# Altium footprint library TO.PcbLib: 55 footprints (part 4 of 4)
Each footprint in its own frame and in the unit in brackets; x right, y up, seen from the top. Pads: shape width x height; smd on the part's side, far side on the other; paste and mask are expansions set on the pad; w line width, h text height; cw(c..) or ccw(c..) is an arc to the next point about the centre after c.
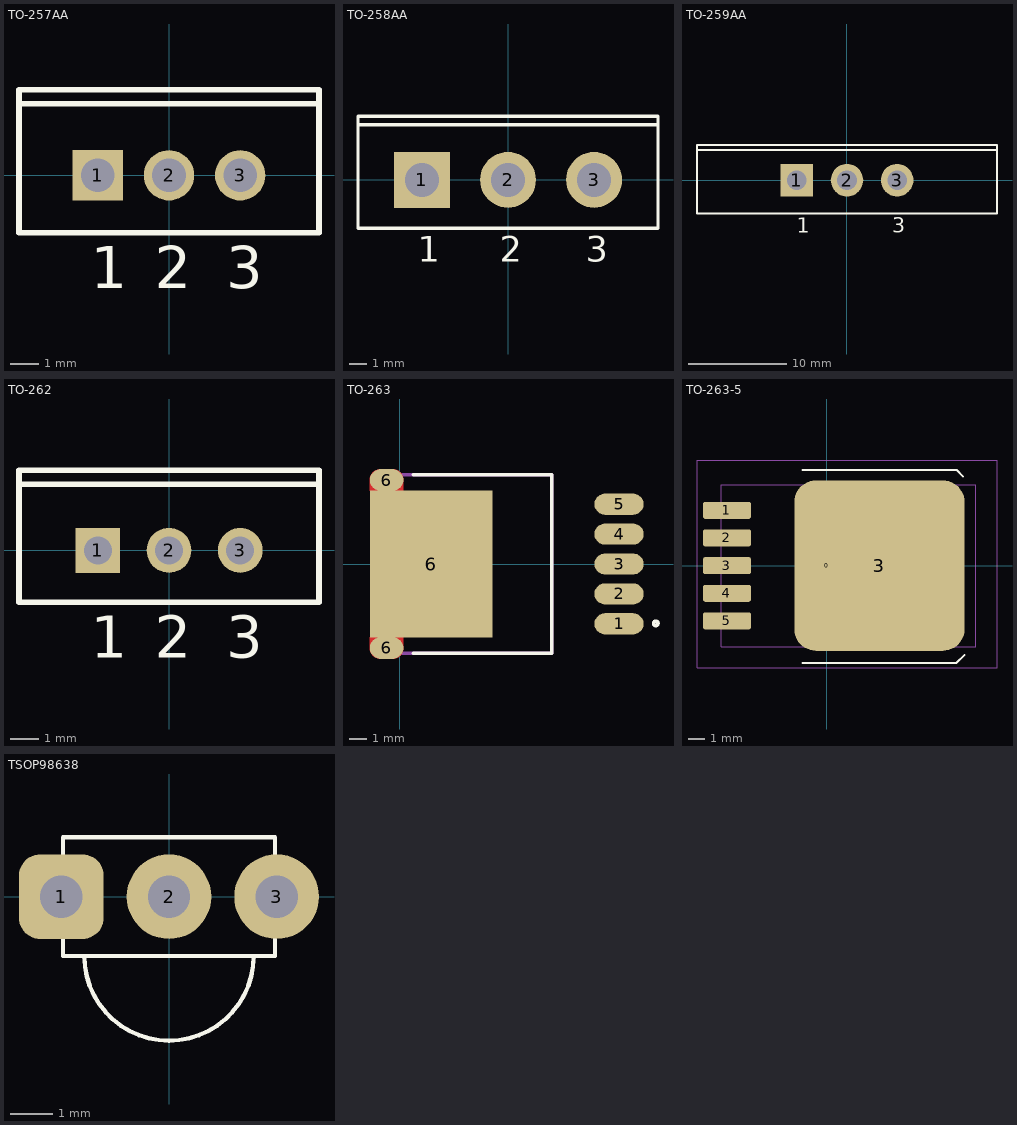
[diagram p3: the footprints below, top view; thin cyan lines are the x and y axes]

## TO-257AA [mm] "TO, Thru-Hole, Vertical, Heatsink Mounted; 3 In-Line Leads; Pitch 2.54 mm"
height 17.8
pads (3):
  rect 1.8x1.8 hole 1.2: 1(-2.54,0)
  round 1.8 hole 1.2: 2(0,0) 3(2.54,0)
Top Overlay:
  lines w0.2: -5.35,2.55 5.35,2.55 ; -5.35,-2.05 5.35,-2.05 5.35,3.05 -5.35,3.05 -5.35,-2.05
  text "3" at 2.04,-4.025 h1.5
  text "2" at -0.5,-4.025 h1.5
  text "1" at -2.79,-4.025 h1.5

## TO-258AA [mm] "TO, Thru-Hole, Vertical, Heatsink Mounted; 3 In-Line Leads; Pitch 5.08 mm"
height 21
pads (3):
  rect 3.3x3.3 hole 2: 1(-5.08,0)
  round 3.3 hole 2: 2(0,0) 3(5.08,0)
Top Overlay:
  lines w0.2: -8.85,3.25 8.85,3.25 ; -8.85,-2.85 -8.85,3.75 8.85,3.75 8.85,-2.85 -8.85,-2.85
  text "3" at 4.58,-4.825 h1.5
  text "2" at -0.5,-4.825 h1.5
  text "1" at -5.33,-4.825 h1.5

## TO-259AA [mm] "SIP; 3 Leads; Body 13.7 x 30.2 x 6.5 mm (typ); Pitch 5.08 mm"
height 14
pads (3):
  rect 3.3x3.3 hole 2: 1(-5.08,0)
  round 3.3 hole 2: 2(0,0) 3(5.08,0)
Top Overlay:
  lines w0.2: -15.2,3.05 15.2,3.05 ; -15.2,-3.35 -15.2,3.55 15.2,3.55 15.2,-3.35 -15.2,-3.35
  text "3" at 4.572,-5.33 h1.5
  text "1" at -5.08,-5.33 h1.5

## TO-262 [mm] "TO, Thru-Hole, Vertical, Heatsink Mounted; 3 In-Line Leads; Pitch 2.54 mm"
height 14.6
pads (3):
  rect 1.6x1.6 hole 1: 1(-2.54,0)
  round 1.6 hole 1: 2(0,0) 3(2.54,0)
Top Overlay:
  lines w0.2: -5.35,2.35 5.35,2.35 ; -5.35,-1.85 -5.35,2.85 5.35,2.85 5.35,-1.85 -5.35,-1.85
  text "3" at 2.04,-3.825 h1.5
  text "1" at -2.79,-3.825 h1.5
  text "2" at -0.5,-3.825 h1.5

## TO-263 [mm]
pads (8):
  oval 2.8x1.2 smd: 1(12.461,-3.4) 2(12.461,-1.7) 3(12.461,0) 4(12.461,1.7) 5(12.461,3.4)
  shape10 1.91x1.235 smd: 6(-0.754,-4.775) 6(-0.754,4.775)
  rect 6.99x8.33 smd: 6(1.786,0)
Top Layer:
  region: 0.201,4.775 0.201,4.816 0.19,4.896 0.169,4.974 0.138,5.049 0.098,5.119 0.049,5.183 -0.009,5.24 -0.073,5.289 -0.143,5.33 -0.218,5.361 -0.296,5.382 -0.376,5.392 -0.416,5.392 -1.091,5.393 -1.132,5.393 -1.212,5.382 -1.29,5.361 -1.365,5.33 -1.435,5.29 -1.5,5.24 -1.557,5.183 -1.606,5.119 -1.647,5.049 -1.677,4.974 -1.698,4.896 -1.709,4.816 -1.709,4.775 -1.709,4.158 -1.092,4.158 0.201,4.158
  region: -1.709,-4.775 -1.709,-4.816 -1.698,-4.896 -1.677,-4.974 -1.646,-5.049 -1.606,-5.119 -1.557,-5.183 -1.499,-5.24 -1.435,-5.289 -1.365,-5.33 -1.29,-5.361 -1.212,-5.382 -1.132,-5.392 -1.091,-5.392 -1.092,-5.392 -0.416,-5.393 -0.376,-5.393 -0.296,-5.382 -0.218,-5.361 -0.143,-5.33 -0.073,-5.29 -0.008,-5.24 0.049,-5.183 0.098,-5.119 0.139,-5.049 0.169,-4.974 0.19,-4.896 0.201,-4.816 0.201,-4.775 0.201,-4.158 -0.416,-4.158 -1.709,-4.158
Top Overlay:
  circle w0.2: c14.551,-3.375 r0.126
  lines w0.2: 0.756,-5.08 8.64,-5.08 8.64,5.08 0.756,5.08
Mechanical 13:
  lines w0.2: 0,-5.08 0,5.08 8.64,5.08 8.64,-5.08 0,-5.08
3D body "LM2596S-12.stp": height 4.72, standoff 0, extent -1.11,-5.08 13.24,5.08

## TO-263-5 [mm] "D-PAK/TO-263-5; 5 Leads; Body 14.4 (inc. leads) x 10.4 mm (LxW max)"
height 4.65
pads (7):
  round 0.5 on Mech15: 0(0,0)
  rrect25% 2.95x1.05 smd: 1(-6.15,3.41) 2(-6.15,1.705) 3(-6.15,0) 4(-6.15,-1.705) 5(-6.15,-3.41)
  rrect25% 10.5x10.5 smd: 3(3.25,0)
Top Overlay:
  lines w0.127: -1.5,-6 8,-6 8.5,-5.5 ; -1.5,5.9 8,5.9 8.4,5.5
Mechanical 13:
  lines w0.076: -6.49,-5 -6.49,5 9.18,5 9.18,-5 -6.49,-5
Mechanical 15:
  lines w0.076: -8,-6.3 -8,6.5 10.5,6.5 10.5,-6.3 -8,-6.3
3D body "TO-263-5.stp": height 4.56, standoff 0, extent -6.727,-5.08 7.288,5.08

## TSOP98638 [mm] "TO, Flat Index; 3 In-Line, Axial Leads; Body Dia. 4.6mm; Leads 0.41 x 0.39 mm (max)"
height 6.95
pads (3):
  rrect50% 2x2 hole 1: 1(-2.54,0)
  round 2 hole 1: 2(0,0) 3(2.54,0)
Top Overlay:
  lines w0.1: -2,-1.4 ccw(c0,-1.4) 2,-1.4 ; -0.635,-0.635 0.635,0.635 ; -0.635,0.635 0.635,-0.635 ; -2.5,-1.4 -2.5,1.4 2.5,1.4 2.5,-1.4 -2.5,-1.4